# EAGLE library part LM319 (library PWM)
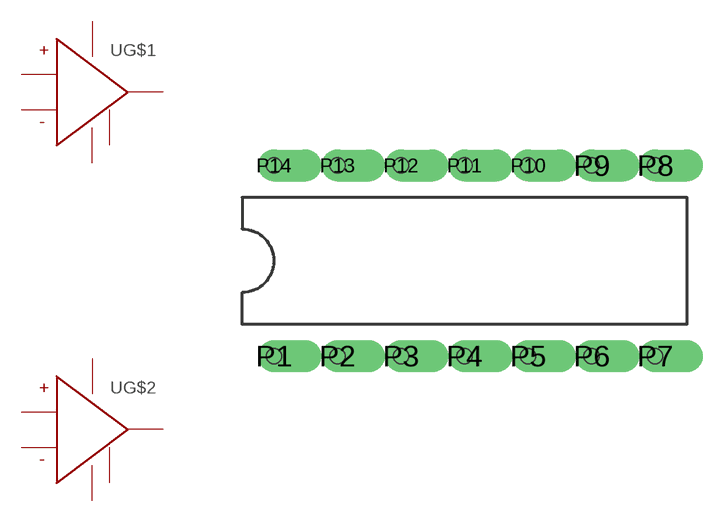
[diagram p5: symbol with the pads of DIL14-1; footprint DIL14-1]

Designator prefix -; gates G$1=LM319 G$2=LM319

## LM319  [DIL14-1]
P2  G$2:GND
P3  G$1:GND2
P4  G$1:NONINV
P5  G$1:INV
P6  G$1:GND
P7  G$2:OUT
P8  G$2:GND2
P9  G$2:NONINV
P10  G$2:INV
P11  G$1:VCC
P12  G$1:OUT
P13  G$2:VCC

## Footprint DIL14-1 (pad centres in mm)
14-pin package
drill 0.406 pad 1.27 offset: P1 -8.89,-3.81; P2 -6.35,-3.81; P3 -3.81,-3.81; P4 -1.27,-3.81; P5 1.27,-3.81; P6 3.81,-3.81; P7 6.35,-3.81; P8 6.35,3.81; P9 3.81,3.81; P10 1.27,3.81; P11 -1.27,3.81; P12 -3.81,3.81; P13 -6.35,3.81; P14 -8.89,3.81
hole 0.61 at -8.89,-3.81
hole 0.61 at -6.35,-3.81
hole 0.61 at -3.81,-3.81
hole 0.61 at -1.27,-3.81
hole 0.61 at 1.27,-3.81
hole 0.61 at 3.81,-3.81
hole 0.61 at 6.35,-3.81
hole 0.61 at 6.35,3.81
hole 0.61 at 3.81,3.81
hole 0.61 at 1.27,3.81
hole 0.61 at -1.27,3.81
hole 0.61 at -3.81,3.81
hole 0.61 at -6.35,3.81
hole 0.61 at -8.89,3.81